# Altium footprint library PcbLib.PcbLib: 6 footprints
Each footprint in its own frame and in the unit in brackets; x right, y up, seen from the top. Pads: shape width x height; smd on the part's side, far side on the other; paste and mask are expansions set on the pad; w line width, h text height; cw(c..) or ccw(c..) is an arc to the next point about the centre after c.
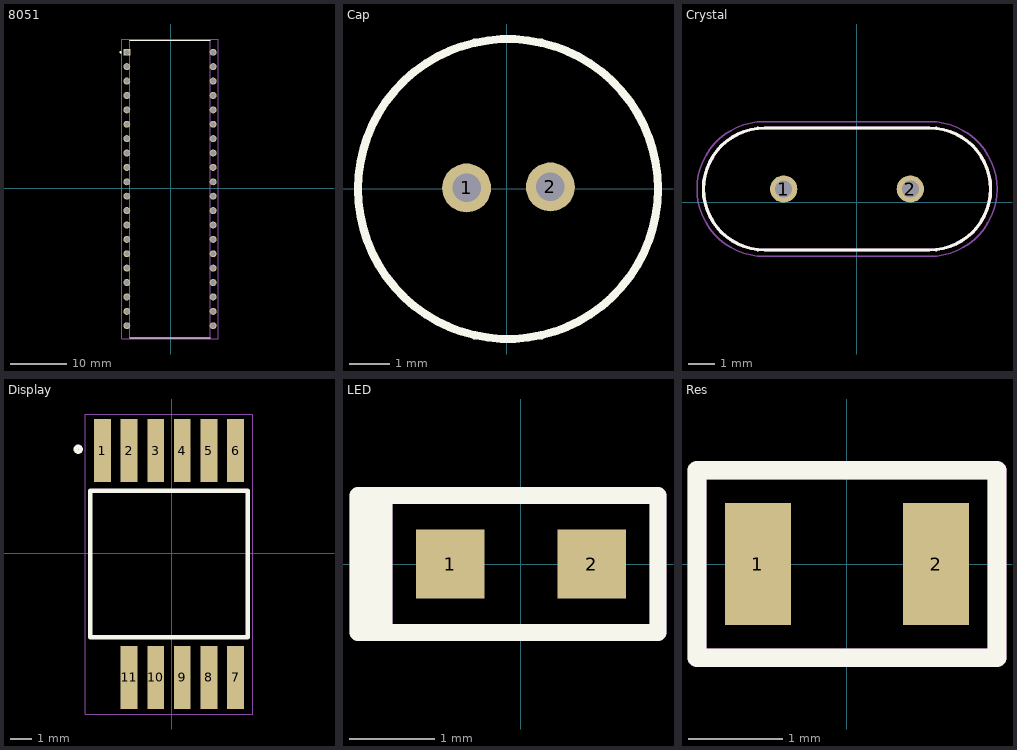
[diagram p0: the footprints below, top view; thin cyan lines are the x and y axes]

## 8051 [mm]
pads (40):
  rect 1.22x1.22 hole 0.87: 1(-7.747,24.003)
  round 1.22 hole 0.87: 2(-7.747,21.463) 3(-7.747,18.923) 4(-7.747,16.383) 5(-7.747,13.843) 6(-7.747,11.303) 7(-7.747,8.763) 8(-7.747,6.223) 9(-7.747,3.683) 10(-7.747,1.143) 11(-7.747,-1.397) 12(-7.747,-3.937) 13(-7.747,-6.477) 14(-7.747,-9.017) 15(-7.747,-11.557) 16(-7.747,-14.097) 17(-7.747,-16.637) 18(-7.747,-19.177) 19(-7.747,-21.717) 20(-7.747,-24.257) 21(7.493,-24.257) 22(7.493,-21.717) 23(7.493,-19.177) 24(7.493,-16.637) 25(7.493,-14.097) 26(7.493,-11.557) 27(7.493,-9.017) 28(7.493,-6.477) 29(7.493,-3.937) 30(7.493,-1.397) 31(7.493,1.143) 32(7.493,3.683) 33(7.493,6.223) 34(7.493,8.763) 35(7.493,11.303) 36(7.493,13.843) 37(7.493,16.383) 38(7.493,18.923) 39(7.493,21.463) 40(7.493,24.003)
Top Overlay:
  circle w0.2: c-8.857,24.003 r0.1
  lines w0.127: -7.237,-26.352 6.983,-26.352 ; -7.237,26.098 6.983,26.098
Mechanical 13:
  circle w0.2: c-8.857,24.003 r0.1
  lines w0.127: -7.237,-26.352 -7.237,26.098 6.983,26.098 6.983,-26.352 -7.237,-26.352
Mechanical 15:
  lines w0.05: -8.607,-26.602 -8.607,26.348 8.353,26.348 8.353,-26.602 -8.607,-26.602
3D body "step_temp.STEP": height 2.03, standoff -5.71, extent -8.382,-26.264 8.128,26.01

## Cap [mm]
pads (2):
  round 1.2 hole 0.7: 1(-0.991,0.025) 2(1.067,0.051)
Top Overlay:
  circle w0.2: c0.025,0 r3.684
3D body "CAPACITOR RADIAL 5X11.step": height 11.01, standoff -2.49, extent -2.475,-2.5 2.525,2.5

## Crystal [mm]
pads (2):
  round 1.05 hole 0.65: 1(-2.821,0.508) 2(2.059,0.508)
Top Overlay:
  lines w0.127: -3.561,-1.842 cw(c-3.561,0.508) -3.561,2.858 2.799,2.858 cw(c2.799,0.508) 2.799,-1.842 -3.561,-1.842
Mechanical 13:
  lines w0.127: -3.561,-1.842 cw(c-3.561,0.508) -3.561,2.858 2.799,2.858 cw(c2.799,0.508) 2.799,-1.842 -3.561,-1.842
Mechanical 15:
  lines w0.05: -3.561,-2.092 cw(c-3.561,0.508) -3.561,3.108 2.799,3.108 cw(c2.799,0.508) 2.799,-2.092 -3.561,-2.092
3D body "step_temp.STEP": height 16.8, standoff 0, extent -5.906,-1.842 5.144,2.858

## Display [mm]
pads (11):
  rect 0.8x3 smd: 1(-3.302,4.892) 2(-2.032,4.892) 3(-0.762,4.892) 4(0.508,4.892) 5(1.778,4.892) 6(3.048,4.892) 7(3.048,-5.908) 8(1.778,-5.908) 9(0.508,-5.908) 10(-0.762,-5.908) 11(-2.032,-5.908)
Top Overlay:
  circle w0.2: c-4.452,4.962 r0.12
  lines w0.2: -3.877,-4.003 -3.877,2.987 3.623,2.987 3.623,-4.003 -3.877,-4.003
Mechanical 15:
  lines w0.05: -4.127,-7.658 -4.127,6.642 3.873,6.642 3.873,-7.658 -4.127,-7.658
3D body "HDSM-283H--3DModel-STEP-56544.STEP": height 3.76, standoff -0.13, extent -3.877,-5.781 3.623,5.019

## LED [mm]
pads (2):
  rect 0.8x0.8 smd: 1(-0.825,0) 2(0.825,0)
Top Overlay:
  rectangle: -1.9,-0.8 -1.5,0.8
  lines w0.2: -1.9,-0.8 -1.9,0.8 1.6,0.8 1.6,-0.8 -1.9,-0.8
Mechanical 29:
  rectangle: -1.9,-0.8 -1.5,0.8
  lines w0.2: -1.9,-0.8 1.6,-0.8 1.6,0.8 -1.9,0.8 -1.9,-0.8
3D body "User Library-SMD LED 0603.step": height 0.4, standoff 0.01, extent -0.8,-0.4 0.8,0.4

## Res [mm]
pads (2):
  rect 0.7x1.3 smd: 1(-0.95,0) 2(0.95,0)
Top Overlay:
  lines w0.2: -1.6,-1 -1.6,1 1.6,1 1.6,-1 -1.6,-1
Mechanical 29:
  lines w0.2: -1.6,-1 1.6,-1 1.6,1 -1.6,1 -1.6,-1
3D body "User Library-CR2012-0805.step": height 0.56, standoff -0.04, extent -1,-0.625 1,0.625